# Altium footprint library SOT1289B.PcbLib: 1 footprints
Each footprint in its own frame and in the unit in brackets; x right, y up, seen from the top. Pads: shape width x height; smd on the part's side, far side on the other; paste and mask are expansions set on the pad; w line width, h text height; cw(c..) or ccw(c..) is an arc to the next point about the centre after c.
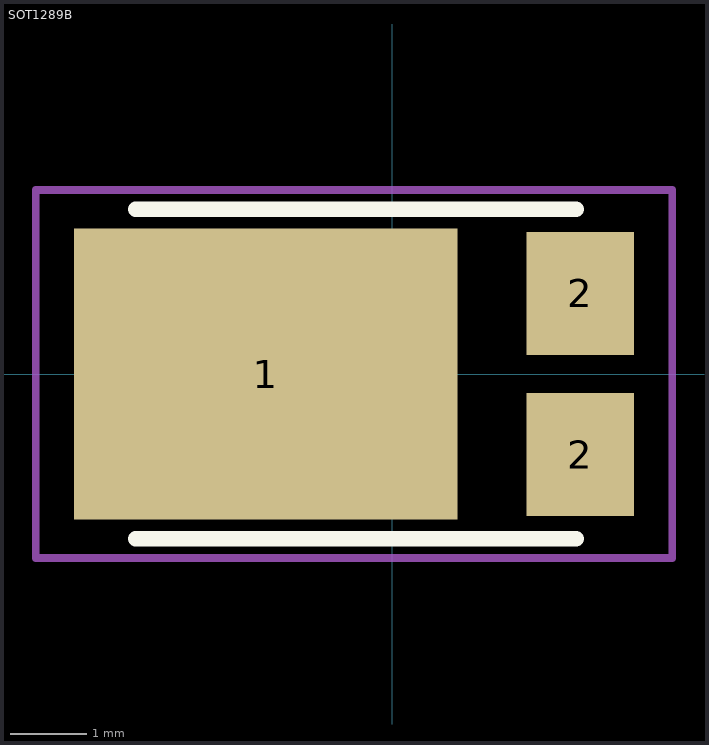
[diagram p0: the footprint, top view; thin cyan lines are the x and y axes]

## SOT1289B [mm]
pads (3):
  rect 5x3.8 smd: 1(-1.65,0)
  rect 1.4x1.6 smd: 2(2.45,-1.05) 2(2.45,1.05)
Top Overlay:
  lines w0.2: -3.35,-2.15 2.4,-2.15 ; -3.35,2.15 2.4,2.15
Top Courtyard:
  lines w0.1: -4.65,-2.4 3.65,-2.4 3.65,2.4 -4.65,2.4 -4.65,-2.4
3D body "SOT1289B(1).step": height 0.99, standoff 0.02, extent -3.894,-2.305 2.906,2.145